# EAGLE library part VNC2-32L1C-REEL (library ftdi-usb-host-controller-VNC2-32L1C-REEL)
FTDI - VNC2-32L1C-REEL - CONTROLLER, USB, VINCULUM II, 32LQFP Source: Datasheet <https://componentsearchengine.com/Datasheets/1/VNC2-32L1C-REEL.pdf>
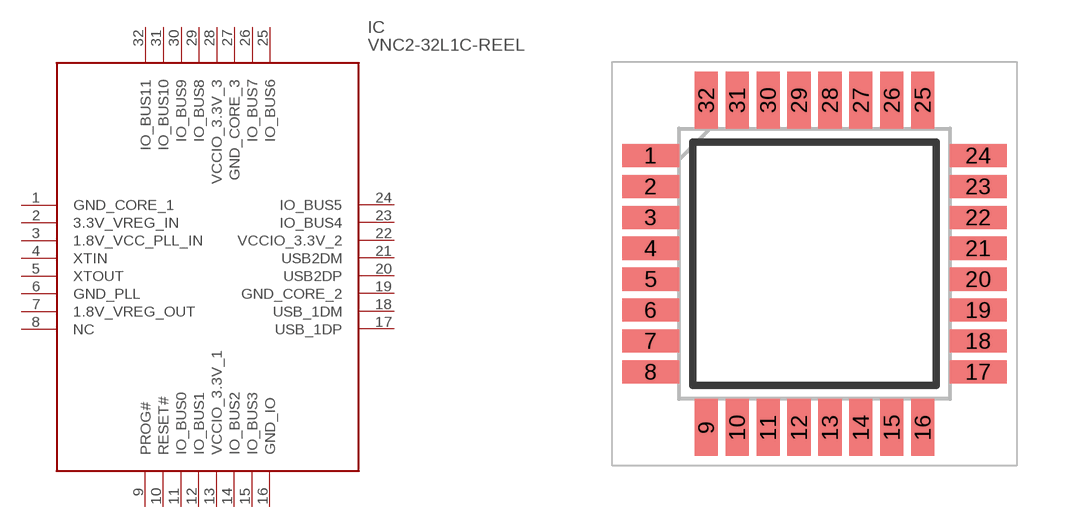
[diagram p0: symbol with the pads of QFP80P900X900X160-32N; footprint QFP80P900X900X160-32N]

Designator prefix IC

## VNC2-32L1C-REEL (Arrow_Part_Number: VNC2-32L1C-REEL; Arrow_Price-Stock: https://www.arrow.com/en/products/vnc2-32l1c-reel/ftdi-chip?region=nac; Description: FTDI - VNC2-32L1C-REEL - CONTROLLER, USB, VINCULUM II, 32LQFP; Height: 1.6mm; Manufacturer_Name: FTDI Chip; Manufacturer_Part_Number: VNC2-32L1C-REEL; Mouser_Part_Number: 895-VNC2-32L1C-REEL; Mouser_Price-Stock: https://www.mouser.co.uk/ProductDetail/FTDI/VNC2-32L1C-REEL?qs=kxHH85wvK2JYNGC4CH%252BL2w%3D%3D)  [QFP80P900X900X160-32N]
1  GND_CORE_1
2  3.3V_VREG_IN
3  1.8V_VCC_PLL_IN
4  XTIN
5  XTOUT
6  GND_PLL
7  1.8V_VREG_OUT
8  NC  nc
9  PROG#
10  RESET#
11  IO_BUS0
12  IO_BUS1
13  VCCIO_3.3V_1
14  IO_BUS2
15  IO_BUS3
16  GND_IO
17  USB_1DP
18  USB_1DM
19  GND_CORE_2
20  USB2DP
21  USB2DM
22  VCCIO_3.3V_2
23  IO_BUS4
24  IO_BUS5
25  IO_BUS6
26  IO_BUS7
27  GND_CORE_3
28  VCCIO_3.3V_3
29  IO_BUS8
30  IO_BUS9
31  IO_BUS10
32  IO_BUS11

## Footprint QFP80P900X900X160-32N (pad centres in mm)
VNC2-32L1C-REEL
smd 1.475 x 0.6: 1 -4.238,2.8; 2 -4.238,2; 3 -4.238,1.2; 4 -4.238,0.4; 5 -4.238,-0.4; 6 -4.238,-1.2; 7 -4.238,-2; 8 -4.238,-2.8; 17 4.238,-2.8; 18 4.238,-2; 19 4.238,-1.2; 20 4.238,-0.4; 21 4.238,0.4; 22 4.238,1.2; 23 4.238,2; 24 4.238,2.8
smd 0.6 x 1.475: 9 -2.8,-4.238; 10 -2,-4.238; 11 -1.2,-4.238; 12 -0.4,-4.238; 13 0.4,-4.238; 14 1.2,-4.238; 15 2,-4.238; 16 2.8,-4.238; 25 2.8,4.238; 26 2,4.238; 27 1.2,4.238; 28 0.4,4.238; 29 -0.4,4.238; 30 -1.2,4.238; 31 -2,4.238; 32 -2.8,4.238